# EAGLE library part LED2X10 (library Traficon)
PIN HEADER
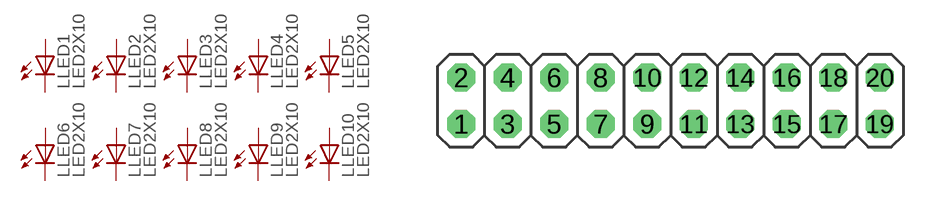
[diagram p54: symbol with the pads of 2X10; footprint 2X10]

Designator prefix L; gates LED1=LED-1 LED2=LED-1 LED3=LED-1 LED4=LED-1 LED5=LED-1 LED6=LED-1 LED7=LED-1 LED8=LED-1 LED9=LED-1 LED10=LED-1

## LED2X10  [2X10]
1  LED1:A  pas
2  LED2:A  pas
3  LED1:C  pas
4  LED2:C  pas
5  LED3:A  pas
6  LED4:A  pas
7  LED3:C  pas
8  LED4:C  pas
9  LED5:A  pas
10  LED6:A  pas
11  LED5:C  pas
12  LED6:C  pas
13  LED7:A  pas
14  LED8:A  pas
15  LED7:C  pas
16  LED8:C  pas
17  LED9:A  pas
18  LED10:A  pas
19  LED9:C  pas
20  LED10:C  pas

## Footprint 2X10 (pad centres in mm)
PIN HEADER
drill 1.016 octagon: 1 0,-2.54; 2 0,0; 3 2.54,-2.54; 4 2.54,0; 5 5.08,-2.54; 6 5.08,0; 7 7.62,-2.54; 8 7.62,0; 9 10.16,-2.54; 10 10.16,0; 11 12.7,-2.54; 12 12.7,0; 13 15.24,-2.54; 14 15.24,0; 15 17.78,-2.54; 16 17.78,0; 17 20.32,-2.54; 18 20.32,0; 19 22.86,-2.54; 20 22.86,0